# EAGLE library part 424400 (library apple_ii)
NEC uPD424400 1Mx4bit DRAM SOJ
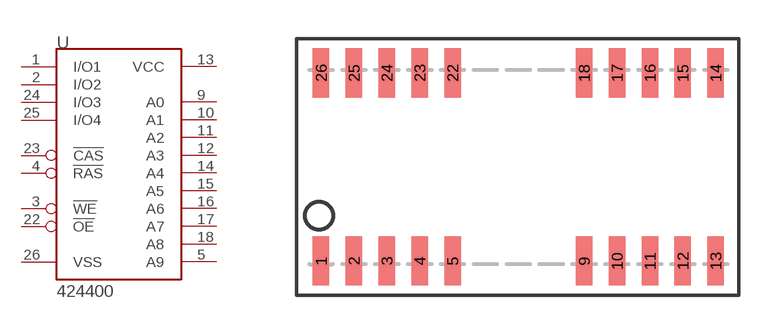
[diagram p3: symbol with the pads of SOJ26/20; footprint SOJ26/20]

Designator prefix U

## 424400  [SOJ26/20]
1  I/O1
2  I/O2
3  !WE  in
4  !RAS  in
5  A9  in
9  A0  in
10  A1  in
11  A2  in
12  A3  in
13  VCC  pwr
14  A4  in
15  A5  in
16  A6  in
17  A7  in
18  A8  in
22  !OE  in
23  !CAS  in
24  I/O3
25  I/O4
26  VSS  pwr

## Footprint SOJ26/20 (pad centres in mm)
Small Outline J-Bend
smd 0.635 x 1.905: 1 -8.89,-3.759; 2 -7.62,-3.759; 3 -6.35,-3.759; 4 -5.08,-3.759; 5 -3.81,-3.759; 9 1.27,-3.759; 10 2.54,-3.759; 11 3.81,-3.759; 12 5.08,-3.759; 13 6.35,-3.759; 14 6.35,3.505; 15 5.08,3.505; 16 3.81,3.505; 17 2.54,3.505; 18 1.27,3.505; 22 -3.81,3.505; 23 -5.08,3.505; 24 -6.35,3.505; 25 -7.62,3.505; 26 -8.89,3.505